# Altium schematic symbol library USLib.SchLib: 3 symbols
Pins are listed as number, name and electrical type; pins without a type are passive.

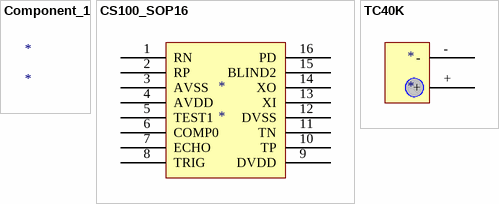
[diagram p0: symbols Component_1 to TC40K]

## Component_1
designator *

## CS100_SOP16
designator *
pins: 1 RN, 2 RP, 3 AVSS, 4 AVDD, 5 TEST1, 6 COMP0, 7 ECHO, 8 TRIG, 9 DVDD, 10 TP, 11 TN, 12 DVSS, 13 XI, 14 XO, 15 BLIND2, 16 PD

## TC40K
designator *
pins: +, -